# Altium integrated library TI_Logic_Specialty_Logic.IntLib: 2504 symbols (part 29 of 81)
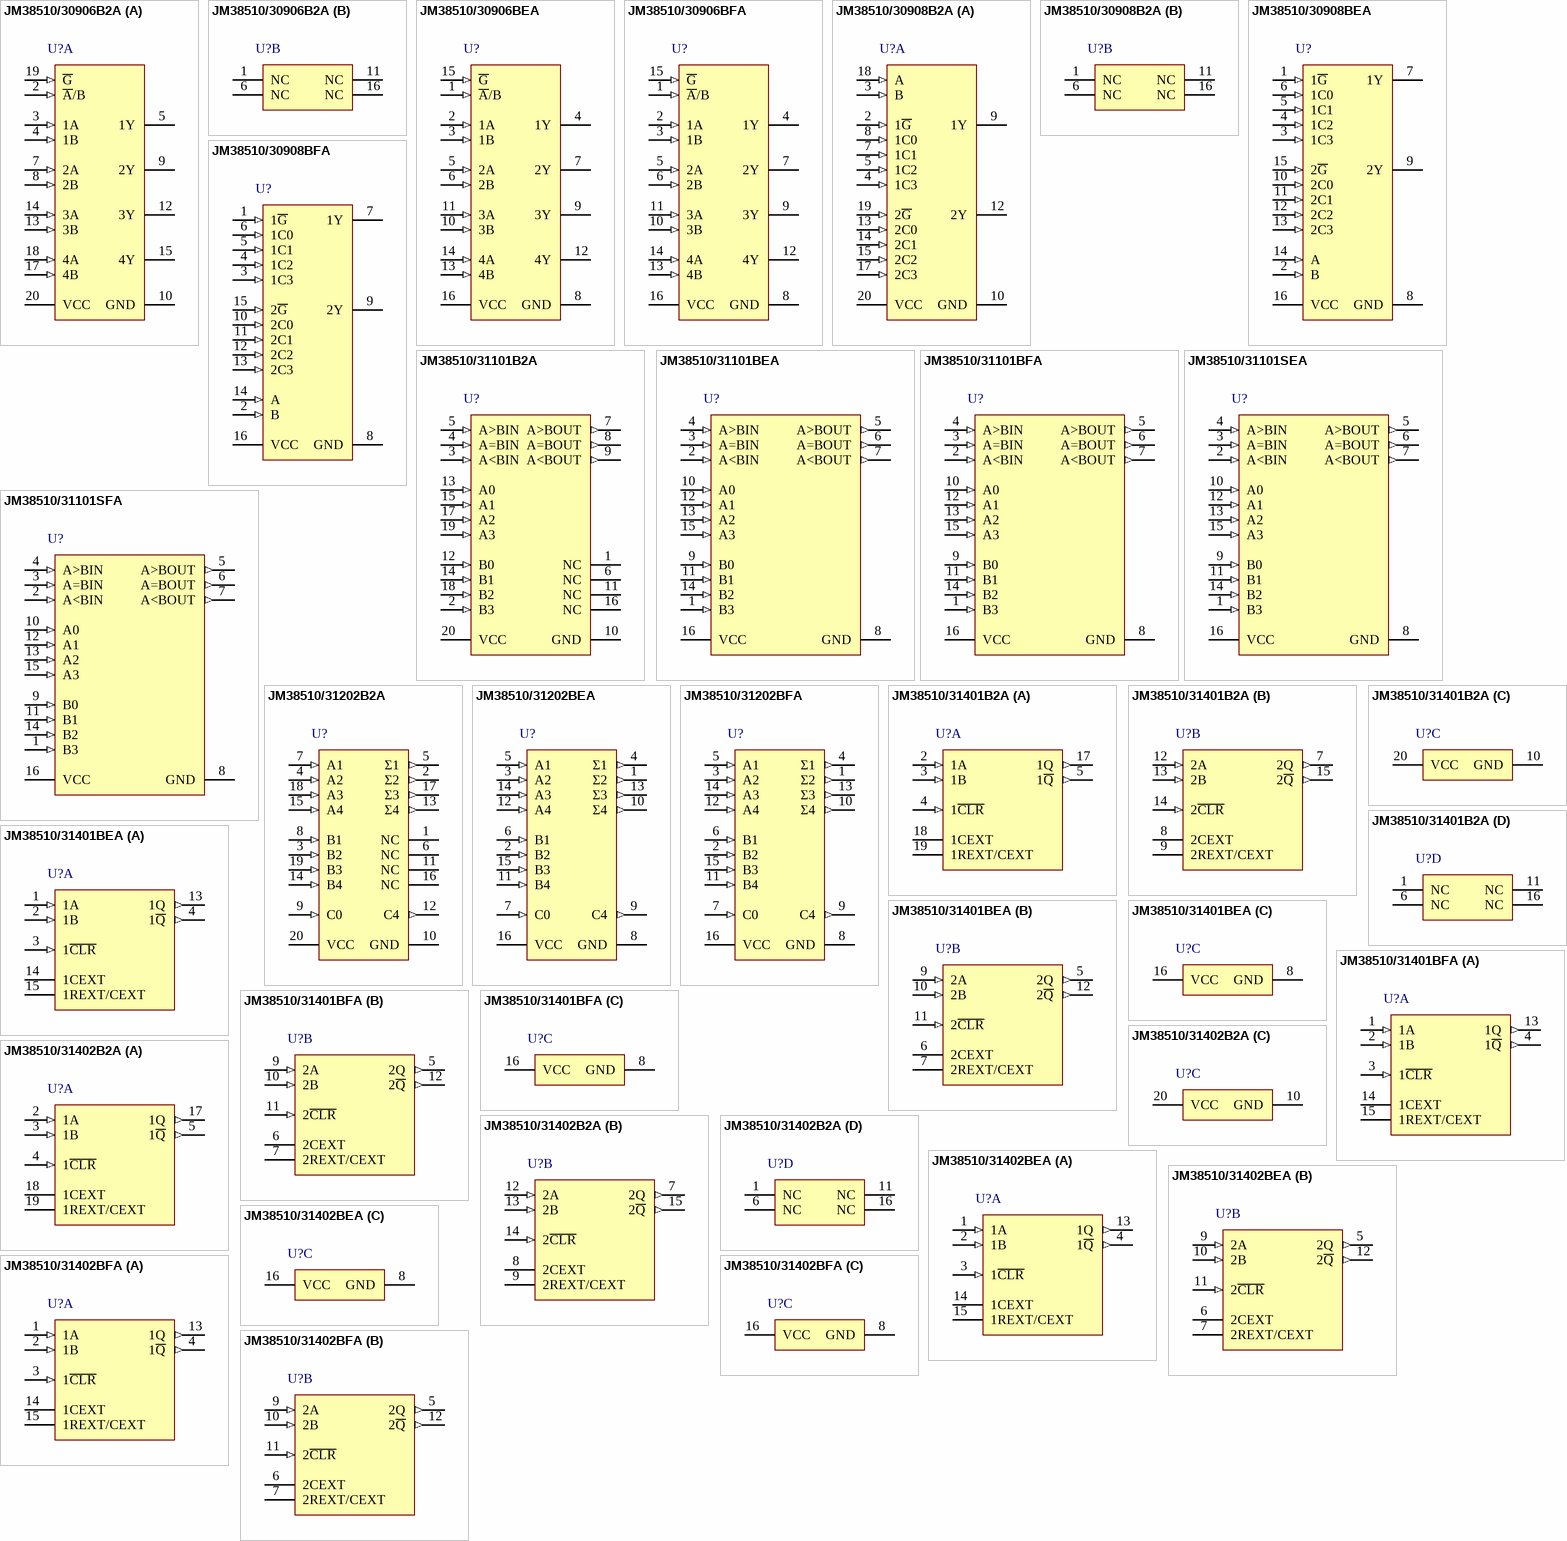
[diagram p132: symbols JM38510/30906B2A to JM38510/31402BFA]

## JM38510/31402BEA
designator U?
Dual Monostable Multivibrators With Schmitt-trigger Inputs, J0016A, TUBE; Generic Part Number: SN54LS221; Manufacturer: Texas Instruments; PartNumber: JM38510/31402BEA; VCC(Min)(V): 4.75; VCC(Max)(V): 5.25; Output Type: TTL; ICC @ Nom Voltage(Max)(mA): 27; Bits(#): 2; Rating: Military; Technology Family: LS; Output Drive (IOL/IOH)(Max)(mA): 8/-0.4; tpd @ Nom Voltage(Max)(ns): 80; DatasheetVersion: SDLS213B; PackageReference: J0016A; Input Type: TTL; Operating Temperature Range(C): -55 to 125; ComponentLink1Description: Manufacturer URL; ComponentLink1URL: http://www.ti.com/; ComponentLink2Description: Datasheet; ComponentLink2URL: http://www.ti.com/lit/ds/symlink/sn54ls221.pdf; ComponentLink3Description: Package Specification; ComponentLink3URL: http://www.ti.com/lit/ml/mcer002d/mcer002d.pdf
footprint J0016A (DIP, 16-Leads, Body 21.35x7.2mm, Pitch 2.54mm)
part A pins: 1 1A (in), 2 1B (in), 3 1~{CLR} (in), 4 1~{Q} (out), 13 1Q (out), 14 1CEXT, 15 1REXT/CEXT
part B pins: 5 2Q (out), 6 2CEXT, 7 2REXT/CEXT, 9 2A (in), 10 2B (in), 11 2~{CLR} (in), 12 2~{Q} (out)
part C pins: 8 GND (power), 16 VCC (power)

## JM38510/31402BFA
designator U?
Dual Monostable Multivibrators With Schmitt-trigger Inputs, W0016A, TUBE; Generic Part Number: SN54LS221; Manufacturer: Texas Instruments; PartNumber: JM38510/31402BFA; VCC(Min)(V): 4.75; VCC(Max)(V): 5.25; Output Type: TTL; ICC @ Nom Voltage(Max)(mA): 27; Bits(#): 2; Rating: Military; Technology Family: LS; Output Drive (IOL/IOH)(Max)(mA): 8/-0.4; tpd @ Nom Voltage(Max)(ns): 80; DatasheetVersion: SDLS213B; PackageReference: W0016A; Input Type: TTL; Operating Temperature Range(C): -55 to 125; ComponentLink1Description: Manufacturer URL; ComponentLink1URL: http://www.ti.com/; ComponentLink2Description: Datasheet; ComponentLink2URL: http://www.ti.com/lit/ds/symlink/sn54ls221.pdf; ComponentLink3Description: Package Specification; ComponentLink3URL: http://www.ti.com/lit/ml/mcfp004c/mcfp004c.pdf
footprint W0016A_N (CFP, 16-Leads, Body 10.92x7.24mm, Pitch 1.27mm, IPC Medium Density)
footprint W0016A_M (CFP, 16-Leads, Body 10.92x7.24mm, Pitch 1.27mm, IPC Low Density)
footprint W0016A_L (CFP, 16-Leads, Body 10.92x7.24mm, Pitch 1.27mm, IPC High Density)
part A pins: 1 1A (in), 2 1B (in), 3 1~{CLR} (in), 4 1~{Q} (out), 13 1Q (out), 14 1CEXT, 15 1REXT/CEXT
part B pins: 5 2Q (out), 6 2CEXT, 7 2REXT/CEXT, 9 2A (in), 10 2B (in), 11 2~{CLR} (in), 12 2~{Q} (out)
part C pins: 8 GND (power), 16 VCC (power)

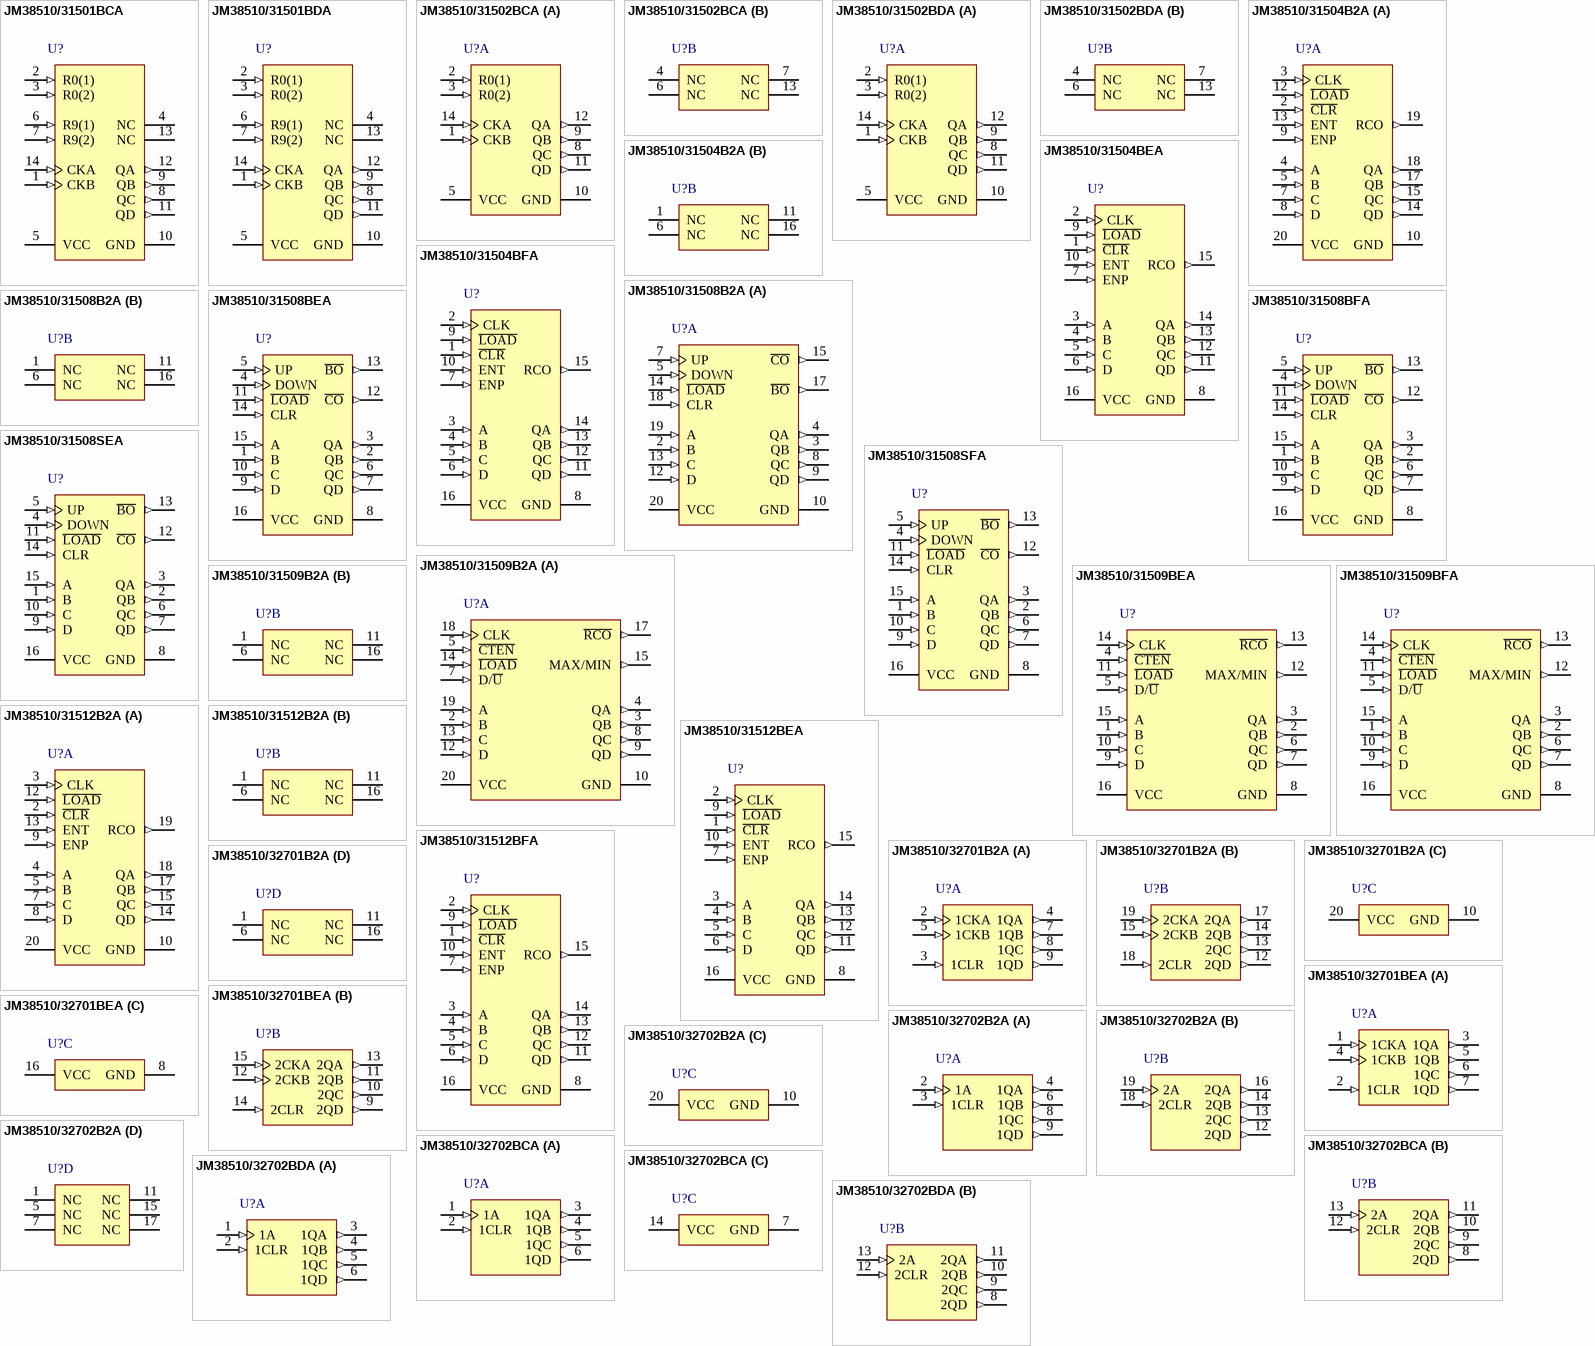
[diagram p39: symbols JM38510/31501BCA to JM38510/32702BDA]

## JM38510/31501BCA
designator U?
Decade Counter, J0014A, TUBE; Generic Part Number: SN54LS90; Manufacturer: Texas Instruments; PartNumber: JM38510/31501BCA; VCC(Min)(V): 4.75; VCC(Max)(V): 5.25; Inputs: 1; ICC @ Nom Voltage(Max)(mA): 15; Bits(#): 4; F @ Nom Voltage(Max)(Mhz): 35; Rating: Military; Technology Family: LS; Output Drive (IOL/IOH)(Max)(mA): 8/-0.4; tpd @ Nom Voltage(Max)(ns): 50; DatasheetVersion: SDLS940A; PackageReference: J0014A; Function: Counter; Operating Temperature Range(C): -55 to 125; Type: Decade; ComponentLink1Description: Manufacturer URL; ComponentLink1URL: http://www.ti.com/; ComponentLink2Description: Datasheet; ComponentLink2URL: http://www.ti.com/lit/ds/symlink/sn54ls90.pdf; ComponentLink3Description: Package Specification; ComponentLink3URL: http://www.ti.com/lit/ml/mcer002d/mcer002d.pdf
footprint J0014A (DIP, 14-Leads, Body 19.95x7.2mm, Pitch 2.54mm)
pins: 1 CKB (in), 2 R0(1) (in), 3 R0(2) (in), 4 NC, 5 VCC (power), 6 R9(1) (in), 7 R9(2) (in), 8 QC (out), 9 QB (out), 10 GND (power), 11 QD (out), 12 QA (out), 13 NC, 14 CKA (in)

## JM38510/31501BDA
designator U?
Decade Counter, W0014A, TUBE; Generic Part Number: SN54LS90; Manufacturer: Texas Instruments; PartNumber: JM38510/31501BDA; VCC(Min)(V): 4.75; VCC(Max)(V): 5.25; Inputs: 1; ICC @ Nom Voltage(Max)(mA): 15; Bits(#): 4; F @ Nom Voltage(Max)(Mhz): 35; Rating: Military; Technology Family: LS; Output Drive (IOL/IOH)(Max)(mA): 8/-0.4; tpd @ Nom Voltage(Max)(ns): 50; DatasheetVersion: SDLS940A; PackageReference: W0014A; Function: Counter; Operating Temperature Range(C): -55 to 125; Type: Decade; ComponentLink1Description: Manufacturer URL; ComponentLink1URL: http://www.ti.com/; ComponentLink2Description: Datasheet; ComponentLink2URL: http://www.ti.com/lit/ds/symlink/sn54ls90.pdf; ComponentLink3Description: Package Specification; ComponentLink3URL: http://www.ti.com/lit/ml/mcfp002c/mcfp002c.pdf
footprint W0014A_N (CFP, 14-Leads, Body 9.91x6.6mm, Pitch 1.27mm, IPC Medium Density)
footprint W0014A_M (CFP, 14-Leads, Body 9.91x6.6mm, Pitch 1.27mm, IPC Low Density)
footprint W0014A_L (CFP, 14-Leads, Body 9.91x6.6mm, Pitch 1.27mm, IPC High Density)
pins: 1 CKB (in), 2 R0(1) (in), 3 R0(2) (in), 4 NC, 5 VCC (power), 6 R9(1) (in), 7 R9(2) (in), 8 QC (out), 9 QB (out), 10 GND (power), 11 QD (out), 12 QA (out), 13 NC, 14 CKA (in)

## JM38510/31502BCA
designator U?
4-Bit Binary Counter, J0014A, TUBE; Generic Part Number: SN54LS93; Manufacturer: Texas Instruments; PartNumber: JM38510/31502BCA; VCC(Min)(V): 4.75; VCC(Max)(V): 5.25; Inputs: 1; ICC @ Nom Voltage(Max)(mA): 15; Bits(#): 4; F @ Nom Voltage(Max)(Mhz): 35; Rating: Military; Technology Family: LS; Output Drive (IOL/IOH)(Max)(mA): 8/-0.4; tpd @ Nom Voltage(Max)(ns): 70; DatasheetVersion: SDLS940A; PackageReference: J0014A; Function: Counter; Operating Temperature Range(C): -55 to 125; Type: Binary; ComponentLink1Description: Manufacturer URL; ComponentLink1URL: http://www.ti.com/; ComponentLink2Description: Datasheet; ComponentLink2URL: http://www.ti.com/lit/ds/symlink/sn54ls93.pdf; ComponentLink3Description: Package Specification; ComponentLink3URL: http://www.ti.com/lit/ml/mcer002d/mcer002d.pdf
footprint J0014A (DIP, 14-Leads, Body 19.95x7.2mm, Pitch 2.54mm)
part A pins: 1 CKB (in), 2 R0(1) (in), 3 R0(2) (in), 5 VCC (power), 8 QC (out), 9 QB (out), 10 GND (power), 11 QD (out), 12 QA (out), 14 CKA (in)
part B pins: 4 NC, 6 NC, 7 NC, 13 NC

## JM38510/31502BDA
designator U?
4-Bit Binary Counter, W0014A, TUBE; Generic Part Number: SN54LS93; Manufacturer: Texas Instruments; PartNumber: JM38510/31502BDA; VCC(Min)(V): 4.75; VCC(Max)(V): 5.25; Inputs: 1; ICC @ Nom Voltage(Max)(mA): 15; Bits(#): 4; F @ Nom Voltage(Max)(Mhz): 35; Rating: Military; Technology Family: LS; Output Drive (IOL/IOH)(Max)(mA): 8/-0.4; tpd @ Nom Voltage(Max)(ns): 70; DatasheetVersion: SDLS940A; PackageReference: W0014A; Function: Counter; Operating Temperature Range(C): -55 to 125; Type: Binary; ComponentLink1Description: Manufacturer URL; ComponentLink1URL: http://www.ti.com/; ComponentLink2Description: Datasheet; ComponentLink2URL: http://www.ti.com/lit/ds/symlink/sn54ls93.pdf; ComponentLink3Description: Package Specification; ComponentLink3URL: http://www.ti.com/lit/ml/mcfp002c/mcfp002c.pdf
footprint W0014A_N (CFP, 14-Leads, Body 9.91x6.6mm, Pitch 1.27mm, IPC Medium Density)
footprint W0014A_M (CFP, 14-Leads, Body 9.91x6.6mm, Pitch 1.27mm, IPC Low Density)
footprint W0014A_L (CFP, 14-Leads, Body 9.91x6.6mm, Pitch 1.27mm, IPC High Density)
part A pins: 1 CKB (in), 2 R0(1) (in), 3 R0(2) (in), 5 VCC (power), 8 QC (out), 9 QB (out), 10 GND (power), 11 QD (out), 12 QA (out), 14 CKA (in)
part B pins: 4 NC, 6 NC, 7 NC, 13 NC

## JM38510/31504B2A
designator U?
Synchronous 4-Bit Counters, FK0020A, TUBE; Generic Part Number: SN54LS161A; Manufacturer: Texas Instruments; PartNumber: JM38510/31504B2A; VCC(Min)(V): 4.75; VCC(Max)(V): 5.25; Inputs: 1; ICC @ Nom Voltage(Max)(mA): 32; Bits(#): 4; F @ Nom Voltage(Max)(Mhz): 35; Rating: Military; Technology Family: LS; Output Drive (IOL/IOH)(Max)(mA): 8/-0.4; DatasheetVersion: SDLS060; PackageReference: FK0020A; Function: Counter; Operating Temperature Range(C): -55 to 125; Type: Binary; tpd @ Nom Voltage(Max)(ns): 35; Code_JEDEC: MS-004; ComponentLink1Description: Manufacturer URL; ComponentLink1URL: http://www.ti.com/; ComponentLink2Description: Datasheet; ComponentLink2URL: http://www.ti.com/lit/ds/symlink/sn54ls161a.pdf; ComponentLink3Description: Package Specification; ComponentLink3URL: http://www.ti.com/lit/ml/mlcc006d/mlcc006d.pdf
footprint FK0020A_N (LCC, 20-Leads, Body 8.9x8.9mm, Pitch 1.27mm, IPC Medium Density)
footprint FK0020A_M (LCC, 20-Leads, Body 8.9x8.9mm, Pitch 1.27mm, IPC Low Density)
footprint FK0020A_L (LCC, 20-Leads, Body 8.9x8.9mm, Pitch 1.27mm, IPC High Density)
part A pins: 2 ~{CLR} (in), 3 CLK (in), 4 A (in), 5 B (in), 7 C (in), 8 D (in), 9 ENP (in), 10 GND (power), 12 ~{LOAD} (in), 13 ENT (in), 14 QD (out), 15 QC (out), 17 QB (out), 18 QA (out), 19 RCO (out), 20 VCC (power)
part B pins: 1 NC, 6 NC, 11 NC, 16 NC

## JM38510/31504BEA
designator U?
Synchronous 4-Bit Counters, J0016A, TUBE; Generic Part Number: SN54LS161A; Manufacturer: Texas Instruments; PartNumber: JM38510/31504BEA; VCC(Min)(V): 4.75; VCC(Max)(V): 5.25; Inputs: 1; ICC @ Nom Voltage(Max)(mA): 32; Bits(#): 4; F @ Nom Voltage(Max)(Mhz): 35; Rating: Military; Technology Family: LS; Output Drive (IOL/IOH)(Max)(mA): 8/-0.4; DatasheetVersion: SDLS060; PackageReference: J0016A; Function: Counter; Operating Temperature Range(C): -55 to 125; Type: Binary; tpd @ Nom Voltage(Max)(ns): 35; ComponentLink1Description: Manufacturer URL; ComponentLink1URL: http://www.ti.com/; ComponentLink2Description: Datasheet; ComponentLink2URL: http://www.ti.com/lit/ds/symlink/sn54ls161a.pdf; ComponentLink3Description: Package Specification; ComponentLink3URL: http://www.ti.com/lit/ml/mcer002d/mcer002d.pdf
footprint J0016A (DIP, 16-Leads, Body 21.35x7.2mm, Pitch 2.54mm)
pins: 1 ~{CLR} (in), 2 CLK (in), 3 A (in), 4 B (in), 5 C (in), 6 D (in), 7 ENP (in), 8 GND (power), 9 ~{LOAD} (in), 10 ENT (in), 11 QD (out), 12 QC (out), 13 QB (out), 14 QA (out), 15 RCO (out), 16 VCC (power)

## JM38510/31504BFA
designator U?
Synchronous 4-Bit Counters, W0016A, TUBE; Generic Part Number: SN54LS161A; Manufacturer: Texas Instruments; PartNumber: JM38510/31504BFA; VCC(Min)(V): 4.75; VCC(Max)(V): 5.25; Inputs: 1; ICC @ Nom Voltage(Max)(mA): 32; Bits(#): 4; F @ Nom Voltage(Max)(Mhz): 35; Rating: Military; Technology Family: LS; Output Drive (IOL/IOH)(Max)(mA): 8/-0.4; DatasheetVersion: SDLS060; PackageReference: W0016A; Function: Counter; Operating Temperature Range(C): -55 to 125; Type: Binary; tpd @ Nom Voltage(Max)(ns): 35; ComponentLink1Description: Manufacturer URL; ComponentLink1URL: http://www.ti.com/; ComponentLink2Description: Datasheet; ComponentLink2URL: http://www.ti.com/lit/ds/symlink/sn54ls161a.pdf; ComponentLink3Description: Package Specification; ComponentLink3URL: http://www.ti.com/lit/ml/mcfp004c/mcfp004c.pdf
footprint W0016A_N (CFP, 16-Leads, Body 10.92x7.24mm, Pitch 1.27mm, IPC Medium Density)
footprint W0016A_M (CFP, 16-Leads, Body 10.92x7.24mm, Pitch 1.27mm, IPC Low Density)
footprint W0016A_L (CFP, 16-Leads, Body 10.92x7.24mm, Pitch 1.27mm, IPC High Density)
pins: 1 ~{CLR} (in), 2 CLK (in), 3 A (in), 4 B (in), 5 C (in), 6 D (in), 7 ENP (in), 8 GND (power), 9 ~{LOAD} (in), 10 ENT (in), 11 QD (out), 12 QC (out), 13 QB (out), 14 QA (out), 15 RCO (out), 16 VCC (power)

## JM38510/31508B2A
designator U?
Synchronous 4-Bit Up/Down Counters (Dual Clock With Clear), FK0020A, TUBE; Generic Part Number: SN54LS193; Manufacturer: Texas Instruments; PartNumber: JM38510/31508B2A; VCC(Min)(V): 4.75; VCC(Max)(V): 5.25; Inputs: 4; ICC @ Nom Voltage(Max)(mA): 34; F @ Nom Voltage(Max)(Mhz): 35; Rating: Military; Technology Family: LS; Output Drive (IOL/IOH)(Max)(mA): 8/-0.4; tpd @ Nom Voltage(Max)(ns): 47; DatasheetVersion: SDLS074; PackageReference: FK0020A; Function: Counter; Bits(#): 4; Operating Temperature Range(C): -55 to 125; Type: Binary; Code_JEDEC: MS-004; ComponentLink1Description: Manufacturer URL; ComponentLink1URL: http://www.ti.com/; ComponentLink2Description: Datasheet; ComponentLink2URL: http://www.ti.com/lit/ds/symlink/sn54ls193.pdf; ComponentLink3Description: Package Specification; ComponentLink3URL: http://www.ti.com/lit/ml/mlcc006d/mlcc006d.pdf
footprint FK0020A_N (LCC, 20-Leads, Body 8.9x8.9mm, Pitch 1.27mm, IPC Medium Density)
footprint FK0020A_M (LCC, 20-Leads, Body 8.9x8.9mm, Pitch 1.27mm, IPC Low Density)
footprint FK0020A_L (LCC, 20-Leads, Body 8.9x8.9mm, Pitch 1.27mm, IPC High Density)
part A pins: 2 B (in), 3 QB (out), 4 QA (out), 5 DOWN (in), 7 UP (in), 8 QC (out), 9 QD (out), 10 GND (power), 12 D (in), 13 C (in), 14 ~{LOAD} (in), 15 ~{CO} (out), 17 ~{BO} (out), 18 CLR (in), 19 A (in), 20 VCC (power)
part B pins: 1 NC, 6 NC, 11 NC, 16 NC

## JM38510/31508BEA
designator U?
Synchronous 4-Bit Up/Down Counters (Dual Clock With Clear), J0016A, TUBE; Generic Part Number: SN54LS193; Manufacturer: Texas Instruments; PartNumber: JM38510/31508BEA; VCC(Min)(V): 4.75; VCC(Max)(V): 5.25; Inputs: 4; ICC @ Nom Voltage(Max)(mA): 34; F @ Nom Voltage(Max)(Mhz): 35; Rating: Military; Technology Family: LS; Output Drive (IOL/IOH)(Max)(mA): 8/-0.4; tpd @ Nom Voltage(Max)(ns): 47; DatasheetVersion: SDLS074; PackageReference: J0016A; Function: Counter; Bits(#): 4; Operating Temperature Range(C): -55 to 125; Type: Binary; ComponentLink1Description: Manufacturer URL; ComponentLink1URL: http://www.ti.com/; ComponentLink2Description: Datasheet; ComponentLink2URL: http://www.ti.com/lit/ds/symlink/sn54ls193.pdf; ComponentLink3Description: Package Specification; ComponentLink3URL: http://www.ti.com/lit/ml/mcer002d/mcer002d.pdf
footprint J0016A (DIP, 16-Leads, Body 21.35x7.2mm, Pitch 2.54mm)
pins: 1 B (in), 2 QB (out), 3 QA (out), 4 DOWN (in), 5 UP (in), 6 QC (out), 7 QD (out), 8 GND (power), 9 D (in), 10 C (in), 11 ~{LOAD} (in), 12 ~{CO} (out), 13 ~{BO} (out), 14 CLR (in), 15 A (in), 16 VCC (power)

## JM38510/31508BFA
designator U?
Synchronous 4-Bit Up/Down Counters (Dual Clock With Clear), W0016A, TUBE; Generic Part Number: SN54LS193; Manufacturer: Texas Instruments; PartNumber: JM38510/31508BFA; VCC(Min)(V): 4.75; VCC(Max)(V): 5.25; Inputs: 4; ICC @ Nom Voltage(Max)(mA): 34; F @ Nom Voltage(Max)(Mhz): 35; Rating: Military; Technology Family: LS; Output Drive (IOL/IOH)(Max)(mA): 8/-0.4; tpd @ Nom Voltage(Max)(ns): 47; DatasheetVersion: SDLS074; PackageReference: W0016A; Function: Counter; Bits(#): 4; Operating Temperature Range(C): -55 to 125; Type: Binary; ComponentLink1Description: Manufacturer URL; ComponentLink1URL: http://www.ti.com/; ComponentLink2Description: Datasheet; ComponentLink2URL: http://www.ti.com/lit/ds/symlink/sn54ls193.pdf; ComponentLink3Description: Package Specification; ComponentLink3URL: http://www.ti.com/lit/ml/mcfp004c/mcfp004c.pdf
footprint W0016A_N (CFP, 16-Leads, Body 10.92x7.24mm, Pitch 1.27mm, IPC Medium Density)
footprint W0016A_M (CFP, 16-Leads, Body 10.92x7.24mm, Pitch 1.27mm, IPC Low Density)
footprint W0016A_L (CFP, 16-Leads, Body 10.92x7.24mm, Pitch 1.27mm, IPC High Density)
pins: 1 B (in), 2 QB (out), 3 QA (out), 4 DOWN (in), 5 UP (in), 6 QC (out), 7 QD (out), 8 GND (power), 9 D (in), 10 C (in), 11 ~{LOAD} (in), 12 ~{CO} (out), 13 ~{BO} (out), 14 CLR (in), 15 A (in), 16 VCC (power)

## JM38510/31508SEA
designator U?
Synchronous 4-Bit Up/Down Counters (Dual Clock With Clear), J0016A, TUBE; Generic Part Number: SN54LS193-SP; Manufacturer: Texas Instruments; PartNumber: JM38510/31508SEA; VCC(Min)(V): 4.75; VCC(Max)(V): 5.25; Inputs: 4; ICC @ Nom Voltage(Max)(mA): 34; F @ Nom Voltage(Max)(Mhz): 35; Rating: Space; Technology Family: LS; Output Drive (IOL/IOH)(Max)(mA): 8/-0.4; tpd @ Nom Voltage(Max)(ns): 47; DatasheetVersion: SDLS074; PackageReference: J0016A; Function: Counter; Bits(#): 4; Operating Temperature Range(C): -55 to 125; Type: Binary; ComponentLink1Description: Manufacturer URL; ComponentLink1URL: http://www.ti.com/; ComponentLink2Description: Datasheet; ComponentLink2URL: http://www.ti.com/lit/ds/symlink/sn54ls193-sp.pdf; ComponentLink3Description: Package Specification; ComponentLink3URL: http://www.ti.com/lit/ml/mcer002d/mcer002d.pdf
footprint J0016A (DIP, 16-Leads, Body 21.35x7.2mm, Pitch 2.54mm)
pins: 1 B (in), 2 QB (out), 3 QA (out), 4 DOWN (in), 5 UP (in), 6 QC (out), 7 QD (out), 8 GND (power), 9 D (in), 10 C (in), 11 ~{LOAD} (in), 12 ~{CO} (out), 13 ~{BO} (out), 14 CLR (in), 15 A (in), 16 VCC (power)

## JM38510/31508SFA
designator U?
Synchronous 4-Bit Up/Down Counters (Dual Clock With Clear), W0016A, TUBE; Generic Part Number: SN54LS193-SP; Manufacturer: Texas Instruments; PartNumber: JM38510/31508SFA; VCC(Min)(V): 4.75; VCC(Max)(V): 5.25; Inputs: 4; ICC @ Nom Voltage(Max)(mA): 34; F @ Nom Voltage(Max)(Mhz): 35; Rating: Space; Technology Family: LS; Output Drive (IOL/IOH)(Max)(mA): 8/-0.4; tpd @ Nom Voltage(Max)(ns): 47; DatasheetVersion: SDLS074; PackageReference: W0016A; Function: Counter; Bits(#): 4; Operating Temperature Range(C): -55 to 125; Type: Binary; ComponentLink1Description: Manufacturer URL; ComponentLink1URL: http://www.ti.com/; ComponentLink2Description: Datasheet; ComponentLink2URL: http://www.ti.com/lit/ds/symlink/sn54ls193-sp.pdf; ComponentLink3Description: Package Specification; ComponentLink3URL: http://www.ti.com/lit/ml/mcfp004c/mcfp004c.pdf
footprint W0016A_N (CFP, 16-Leads, Body 10.92x7.24mm, Pitch 1.27mm, IPC Medium Density)
footprint W0016A_M (CFP, 16-Leads, Body 10.92x7.24mm, Pitch 1.27mm, IPC Low Density)
footprint W0016A_L (CFP, 16-Leads, Body 10.92x7.24mm, Pitch 1.27mm, IPC High Density)
pins: 1 B (in), 2 QB (out), 3 QA (out), 4 DOWN (in), 5 UP (in), 6 QC (out), 7 QD (out), 8 GND (power), 9 D (in), 10 C (in), 11 ~{LOAD} (in), 12 ~{CO} (out), 13 ~{BO} (out), 14 CLR (in), 15 A (in), 16 VCC (power)

## JM38510/31509B2A
designator U?
Synchronous Up/Down Counters With Down/Up Mode Control, FK0020A, TUBE; Generic Part Number: SN54LS191; Manufacturer: Texas Instruments; PartNumber: JM38510/31509B2A; VCC(Min)(V): 4.75; VCC(Max)(V): 5.25; Inputs: 1; ICC @ Nom Voltage(Max)(mA): 105; Bits(#): 4; F @ Nom Voltage(Max)(Mhz): 35; Rating: Military; Technology Family: LS; Output Drive (IOL/IOH)(Max)(mA): 16/-0.8; tpd @ Nom Voltage(Max)(ns): 52; DatasheetVersion: SDLS072; PackageReference: FK0020A; Function: Counter; Operating Temperature Range(C): -55 to 125; Type: Binary; Code_JEDEC: MS-004; ComponentLink1Description: Manufacturer URL; ComponentLink1URL: http://www.ti.com/; ComponentLink2Description: Datasheet; ComponentLink2URL: http://www.ti.com/lit/ds/symlink/sn54ls191.pdf; ComponentLink3Description: Package Specification; ComponentLink3URL: http://www.ti.com/lit/ml/mlcc006d/mlcc006d.pdf
footprint FK0020A_N (LCC, 20-Leads, Body 8.9x8.9mm, Pitch 1.27mm, IPC Medium Density)
footprint FK0020A_M (LCC, 20-Leads, Body 8.9x8.9mm, Pitch 1.27mm, IPC Low Density)
footprint FK0020A_L (LCC, 20-Leads, Body 8.9x8.9mm, Pitch 1.27mm, IPC High Density)
part A pins: 2 B (in), 3 QB (out), 4 QA (out), 5 ~{CTEN} (in), 7 D/~{U} (in), 8 QC (out), 9 QD (out), 10 GND (power), 12 D (in), 13 C (in), 14 ~{LOAD} (in), 15 MAX/MIN (out), 17 ~{RCO} (out), 18 CLK (in), 19 A (in), 20 VCC (power)
part B pins: 1 NC, 6 NC, 11 NC, 16 NC

## JM38510/31509BEA
designator U?
Synchronous Up/Down Counters With Down/Up Mode Control, J0016A, TUBE; Generic Part Number: SN54LS191; Manufacturer: Texas Instruments; PartNumber: JM38510/31509BEA; VCC(Min)(V): 4.75; VCC(Max)(V): 5.25; Inputs: 1; ICC @ Nom Voltage(Max)(mA): 105; Bits(#): 4; F @ Nom Voltage(Max)(Mhz): 35; Rating: Military; Technology Family: LS; Output Drive (IOL/IOH)(Max)(mA): 16/-0.8; tpd @ Nom Voltage(Max)(ns): 52; DatasheetVersion: SDLS072; PackageReference: J0016A; Function: Counter; Operating Temperature Range(C): -55 to 125; Type: Binary; ComponentLink1Description: Manufacturer URL; ComponentLink1URL: http://www.ti.com/; ComponentLink2Description: Datasheet; ComponentLink2URL: http://www.ti.com/lit/ds/symlink/sn54ls191.pdf; ComponentLink3Description: Package Specification; ComponentLink3URL: http://www.ti.com/lit/ml/mcer002d/mcer002d.pdf
footprint J0016A (DIP, 16-Leads, Body 21.35x7.2mm, Pitch 2.54mm)
pins: 1 B (in), 2 QB (out), 3 QA (out), 4 ~{CTEN} (in), 5 D/~{U} (in), 6 QC (out), 7 QD (out), 8 GND (power), 9 D (in), 10 C (in), 11 ~{LOAD} (in), 12 MAX/MIN (out), 13 ~{RCO} (out), 14 CLK (in), 15 A (in), 16 VCC (power)

## JM38510/31509BFA
designator U?
Synchronous Up/Down Counters With Down/Up Mode Control, W0016A, TUBE; Generic Part Number: SN54LS191; Manufacturer: Texas Instruments; PartNumber: JM38510/31509BFA; VCC(Min)(V): 4.75; VCC(Max)(V): 5.25; Inputs: 1; ICC @ Nom Voltage(Max)(mA): 105; Bits(#): 4; F @ Nom Voltage(Max)(Mhz): 35; Rating: Military; Technology Family: LS; Output Drive (IOL/IOH)(Max)(mA): 16/-0.8; tpd @ Nom Voltage(Max)(ns): 52; DatasheetVersion: SDLS072; PackageReference: W0016A; Function: Counter; Operating Temperature Range(C): -55 to 125; Type: Binary; ComponentLink1Description: Manufacturer URL; ComponentLink1URL: http://www.ti.com/; ComponentLink2Description: Datasheet; ComponentLink2URL: http://www.ti.com/lit/ds/symlink/sn54ls191.pdf; ComponentLink3Description: Package Specification; ComponentLink3URL: http://www.ti.com/lit/ml/mcfp004c/mcfp004c.pdf
footprint W0016A_N (CFP, 16-Leads, Body 10.92x7.24mm, Pitch 1.27mm, IPC Medium Density)
footprint W0016A_M (CFP, 16-Leads, Body 10.92x7.24mm, Pitch 1.27mm, IPC Low Density)
footprint W0016A_L (CFP, 16-Leads, Body 10.92x7.24mm, Pitch 1.27mm, IPC High Density)
pins: 1 B (in), 2 QB (out), 3 QA (out), 4 ~{CTEN} (in), 5 D/~{U} (in), 6 QC (out), 7 QD (out), 8 GND (power), 9 D (in), 10 C (in), 11 ~{LOAD} (in), 12 MAX/MIN (out), 13 ~{RCO} (out), 14 CLK (in), 15 A (in), 16 VCC (power)

## JM38510/31512B2A
designator U?
Synchronous 4-Bit Counters, FK0020A, TUBE; Generic Part Number: SN54LS163A; Manufacturer: Texas Instruments; PartNumber: JM38510/31512B2A; VCC(Min)(V): 4.75; VCC(Max)(V): 5.25; Inputs: 1; ICC @ Nom Voltage(Max)(mA): 32; Bits(#): 4; F @ Nom Voltage(Max)(Mhz): 35; Rating: Military; Technology Family: LS; Output Drive (IOL/IOH)(Max)(mA): 8/-0.4; DatasheetVersion: SDLS060; PackageReference: FK0020A; Function: Counter; Operating Temperature Range(C): -55 to 125; Type: Binary; tpd @ Nom Voltage(Max)(ns): 35; Code_JEDEC: MS-004; ComponentLink1Description: Manufacturer URL; ComponentLink1URL: http://www.ti.com/; ComponentLink2Description: Datasheet; ComponentLink2URL: http://www.ti.com/lit/ds/symlink/sn54ls163a.pdf; ComponentLink3Description: Package Specification; ComponentLink3URL: http://www.ti.com/lit/ml/mlcc006d/mlcc006d.pdf
footprint FK0020A_N (LCC, 20-Leads, Body 8.9x8.9mm, Pitch 1.27mm, IPC Medium Density)
footprint FK0020A_M (LCC, 20-Leads, Body 8.9x8.9mm, Pitch 1.27mm, IPC Low Density)
footprint FK0020A_L (LCC, 20-Leads, Body 8.9x8.9mm, Pitch 1.27mm, IPC High Density)
part A pins: 2 ~{CLR} (in), 3 CLK (in), 4 A (in), 5 B (in), 7 C (in), 8 D (in), 9 ENP (in), 10 GND (power), 12 ~{LOAD} (in), 13 ENT (in), 14 QD (out), 15 QC (out), 17 QB (out), 18 QA (out), 19 RCO (out), 20 VCC (power)
part B pins: 1 NC, 6 NC, 11 NC, 16 NC

## JM38510/31512BEA
designator U?
Synchronous 4-Bit Counters, J0016A, TUBE; Generic Part Number: SN54LS163A; Manufacturer: Texas Instruments; PartNumber: JM38510/31512BEA; VCC(Min)(V): 4.75; VCC(Max)(V): 5.25; Inputs: 1; ICC @ Nom Voltage(Max)(mA): 32; Bits(#): 4; F @ Nom Voltage(Max)(Mhz): 35; Rating: Military; Technology Family: LS; Output Drive (IOL/IOH)(Max)(mA): 8/-0.4; DatasheetVersion: SDLS060; PackageReference: J0016A; Function: Counter; Operating Temperature Range(C): -55 to 125; Type: Binary; tpd @ Nom Voltage(Max)(ns): 35; ComponentLink1Description: Manufacturer URL; ComponentLink1URL: http://www.ti.com/; ComponentLink2Description: Datasheet; ComponentLink2URL: http://www.ti.com/lit/ds/symlink/sn54ls163a.pdf; ComponentLink3Description: Package Specification; ComponentLink3URL: http://www.ti.com/lit/ml/mcer002d/mcer002d.pdf
footprint J0016A (DIP, 16-Leads, Body 21.35x7.2mm, Pitch 2.54mm)
pins: 1 ~{CLR} (in), 2 CLK (in), 3 A (in), 4 B (in), 5 C (in), 6 D (in), 7 ENP (in), 8 GND (power), 9 ~{LOAD} (in), 10 ENT (in), 11 QD (out), 12 QC (out), 13 QB (out), 14 QA (out), 15 RCO (out), 16 VCC (power)

## JM38510/31512BFA
designator U?
Synchronous 4-Bit Counters, W0016A, TUBE; Generic Part Number: SN54LS163A; Manufacturer: Texas Instruments; PartNumber: JM38510/31512BFA; VCC(Min)(V): 4.75; VCC(Max)(V): 5.25; Inputs: 1; ICC @ Nom Voltage(Max)(mA): 32; Bits(#): 4; F @ Nom Voltage(Max)(Mhz): 35; Rating: Military; Technology Family: LS; Output Drive (IOL/IOH)(Max)(mA): 8/-0.4; DatasheetVersion: SDLS060; PackageReference: W0016A; Function: Counter; Operating Temperature Range(C): -55 to 125; Type: Binary; tpd @ Nom Voltage(Max)(ns): 35; ComponentLink1Description: Manufacturer URL; ComponentLink1URL: http://www.ti.com/; ComponentLink2Description: Datasheet; ComponentLink2URL: http://www.ti.com/lit/ds/symlink/sn54ls163a.pdf; ComponentLink3Description: Package Specification; ComponentLink3URL: http://www.ti.com/lit/ml/mcfp004c/mcfp004c.pdf
footprint W0016A_N (CFP, 16-Leads, Body 10.92x7.24mm, Pitch 1.27mm, IPC Medium Density)
footprint W0016A_M (CFP, 16-Leads, Body 10.92x7.24mm, Pitch 1.27mm, IPC Low Density)
footprint W0016A_L (CFP, 16-Leads, Body 10.92x7.24mm, Pitch 1.27mm, IPC High Density)
pins: 1 ~{CLR} (in), 2 CLK (in), 3 A (in), 4 B (in), 5 C (in), 6 D (in), 7 ENP (in), 8 GND (power), 9 ~{LOAD} (in), 10 ENT (in), 11 QD (out), 12 QC (out), 13 QB (out), 14 QA (out), 15 RCO (out), 16 VCC (power)

## JM38510/32701B2A
designator U?
Dual 4-Bit Decade And Binary Counters, FK0020A, TUBE; Generic Part Number: SN54LS390; Manufacturer: Texas Instruments; PartNumber: JM38510/32701B2A; VCC(Min)(V): 4.75; VCC(Max)(V): 5.25; Inputs: 1; ICC @ Nom Voltage(Max)(mA): 26; Bits(#): 4; F @ Nom Voltage(Max)(Mhz): 35; Rating: Military; Technology Family: LS; Output Drive (IOL/IOH)(Max)(mA): 8/-0.4; tpd @ Nom Voltage(Max)(ns): 60; DatasheetVersion: SDLS107; PackageReference: FK0020A; Function: Counter; Operating Temperature Range(C): -55 to 125; Type: Decade; Code_JEDEC: MS-004; ComponentLink1Description: Manufacturer URL; ComponentLink1URL: http://www.ti.com/; ComponentLink2Description: Datasheet; ComponentLink2URL: http://www.ti.com/lit/ds/symlink/sn54ls390.pdf; ComponentLink3Description: Package Specification; ComponentLink3URL: http://www.ti.com/lit/ml/mlcc006d/mlcc006d.pdf
footprint FK0020A_N (LCC, 20-Leads, Body 8.9x8.9mm, Pitch 1.27mm, IPC Medium Density)
footprint FK0020A_M (LCC, 20-Leads, Body 8.9x8.9mm, Pitch 1.27mm, IPC Low Density)
footprint FK0020A_L (LCC, 20-Leads, Body 8.9x8.9mm, Pitch 1.27mm, IPC High Density)
part A pins: 2 1CKA (in), 3 1CLR (in), 4 1QA (out), 5 1CKB (in), 7 1QB (out), 8 1QC (out), 9 1QD (out)
part B pins: 12 2QD (out), 13 2QC (out), 14 2QB (out), 15 2CKB (in), 17 2QA (out), 18 2CLR (in), 19 2CKA (in)
part C pins: 10 GND (power), 20 VCC (power)
part D pins: 1 NC, 6 NC, 11 NC, 16 NC

## JM38510/32701BEA
designator U?
Dual 4-Bit Decade And Binary Counters, J0016A, TUBE; Generic Part Number: SN54LS390; Manufacturer: Texas Instruments; PartNumber: JM38510/32701BEA; VCC(Min)(V): 4.75; VCC(Max)(V): 5.25; Inputs: 1; ICC @ Nom Voltage(Max)(mA): 26; Bits(#): 4; F @ Nom Voltage(Max)(Mhz): 35; Rating: Military; Technology Family: LS; Output Drive (IOL/IOH)(Max)(mA): 8/-0.4; tpd @ Nom Voltage(Max)(ns): 60; DatasheetVersion: SDLS107; PackageReference: J0016A; Function: Counter; Operating Temperature Range(C): -55 to 125; Type: Decade; ComponentLink1Description: Manufacturer URL; ComponentLink1URL: http://www.ti.com/; ComponentLink2Description: Datasheet; ComponentLink2URL: http://www.ti.com/lit/ds/symlink/sn54ls390.pdf; ComponentLink3Description: Package Specification; ComponentLink3URL: http://www.ti.com/lit/ml/mcer002d/mcer002d.pdf
footprint J0016A (DIP, 16-Leads, Body 21.35x7.2mm, Pitch 2.54mm)
part A pins: 1 1CKA (in), 2 1CLR (in), 3 1QA (out), 4 1CKB (in), 5 1QB (out), 6 1QC (out), 7 1QD (out)
part B pins: 9 2QD (out), 10 2QC (out), 11 2QB (out), 12 2CKB (in), 13 2QA (out), 14 2CLR (in), 15 2CKA (in)
part C pins: 8 GND (power), 16 VCC (power)

## JM38510/32702B2A
designator U?
Dual 4-Bit Binary Counters, FK0020A, TUBE; Generic Part Number: SN54LS393; Manufacturer: Texas Instruments; PartNumber: JM38510/32702B2A; VCC(Min)(V): 4.75; VCC(Max)(V): 5.25; Inputs: 1; ICC @ Nom Voltage(Max)(mA): 26; Bits(#): 4; F @ Nom Voltage(Max)(Mhz): 35; Rating: Military; Technology Family: LS; Output Drive (IOL/IOH)(Max)(mA): 8/-0.4; tpd @ Nom Voltage(Max)(ns): 60; DatasheetVersion: SDLS107; PackageReference: FK0020A; Function: Counter; Operating Temperature Range(C): -55 to 125; Type: Decade; Code_JEDEC: MS-004; ComponentLink1Description: Manufacturer URL; ComponentLink1URL: http://www.ti.com/; ComponentLink2Description: Datasheet; ComponentLink2URL: http://www.ti.com/lit/ds/symlink/sn54ls393.pdf; ComponentLink3Description: Package Specification; ComponentLink3URL: http://www.ti.com/lit/ml/mlcc006d/mlcc006d.pdf
footprint FK0020A_N (LCC, 20-Leads, Body 8.9x8.9mm, Pitch 1.27mm, IPC Medium Density)
footprint FK0020A_M (LCC, 20-Leads, Body 8.9x8.9mm, Pitch 1.27mm, IPC Low Density)
footprint FK0020A_L (LCC, 20-Leads, Body 8.9x8.9mm, Pitch 1.27mm, IPC High Density)
part A pins: 2 1A (in), 3 1CLR (in), 4 1QA (out), 6 1QB (out), 8 1QC (out), 9 1QD (out)
part B pins: 12 2QD (out), 13 2QC (out), 14 2QB (out), 16 2QA (out), 18 2CLR (in), 19 2A (in)
part C pins: 10 GND (power), 20 VCC (power)
part D pins: 1 NC, 5 NC, 7 NC, 11 NC, 15 NC, 17 NC

## JM38510/32702BCA
designator U?
Dual 4-Bit Binary Counters, J0014A, TUBE; Generic Part Number: SN54LS393; Manufacturer: Texas Instruments; PartNumber: JM38510/32702BCA; VCC(Min)(V): 4.75; VCC(Max)(V): 5.25; Inputs: 1; ICC @ Nom Voltage(Max)(mA): 26; Bits(#): 4; F @ Nom Voltage(Max)(Mhz): 35; Rating: Military; Technology Family: LS; Output Drive (IOL/IOH)(Max)(mA): 8/-0.4; tpd @ Nom Voltage(Max)(ns): 60; DatasheetVersion: SDLS107; PackageReference: J0014A; Function: Counter; Operating Temperature Range(C): -55 to 125; Type: Decade; ComponentLink1Description: Manufacturer URL; ComponentLink1URL: http://www.ti.com/; ComponentLink2Description: Datasheet; ComponentLink2URL: http://www.ti.com/lit/ds/symlink/sn54ls393.pdf; ComponentLink3Description: Package Specification; ComponentLink3URL: http://www.ti.com/lit/ml/mcer002d/mcer002d.pdf
footprint J0014A (DIP, 14-Leads, Body 19.95x7.2mm, Pitch 2.54mm)
part A pins: 1 1A (in), 2 1CLR (in), 3 1QA (out), 4 1QB (out), 5 1QC (out), 6 1QD (out)
part B pins: 8 2QD (out), 9 2QC (out), 10 2QB (out), 11 2QA (out), 12 2CLR (in), 13 2A (in)
part C pins: 7 GND (power), 14 VCC (power)

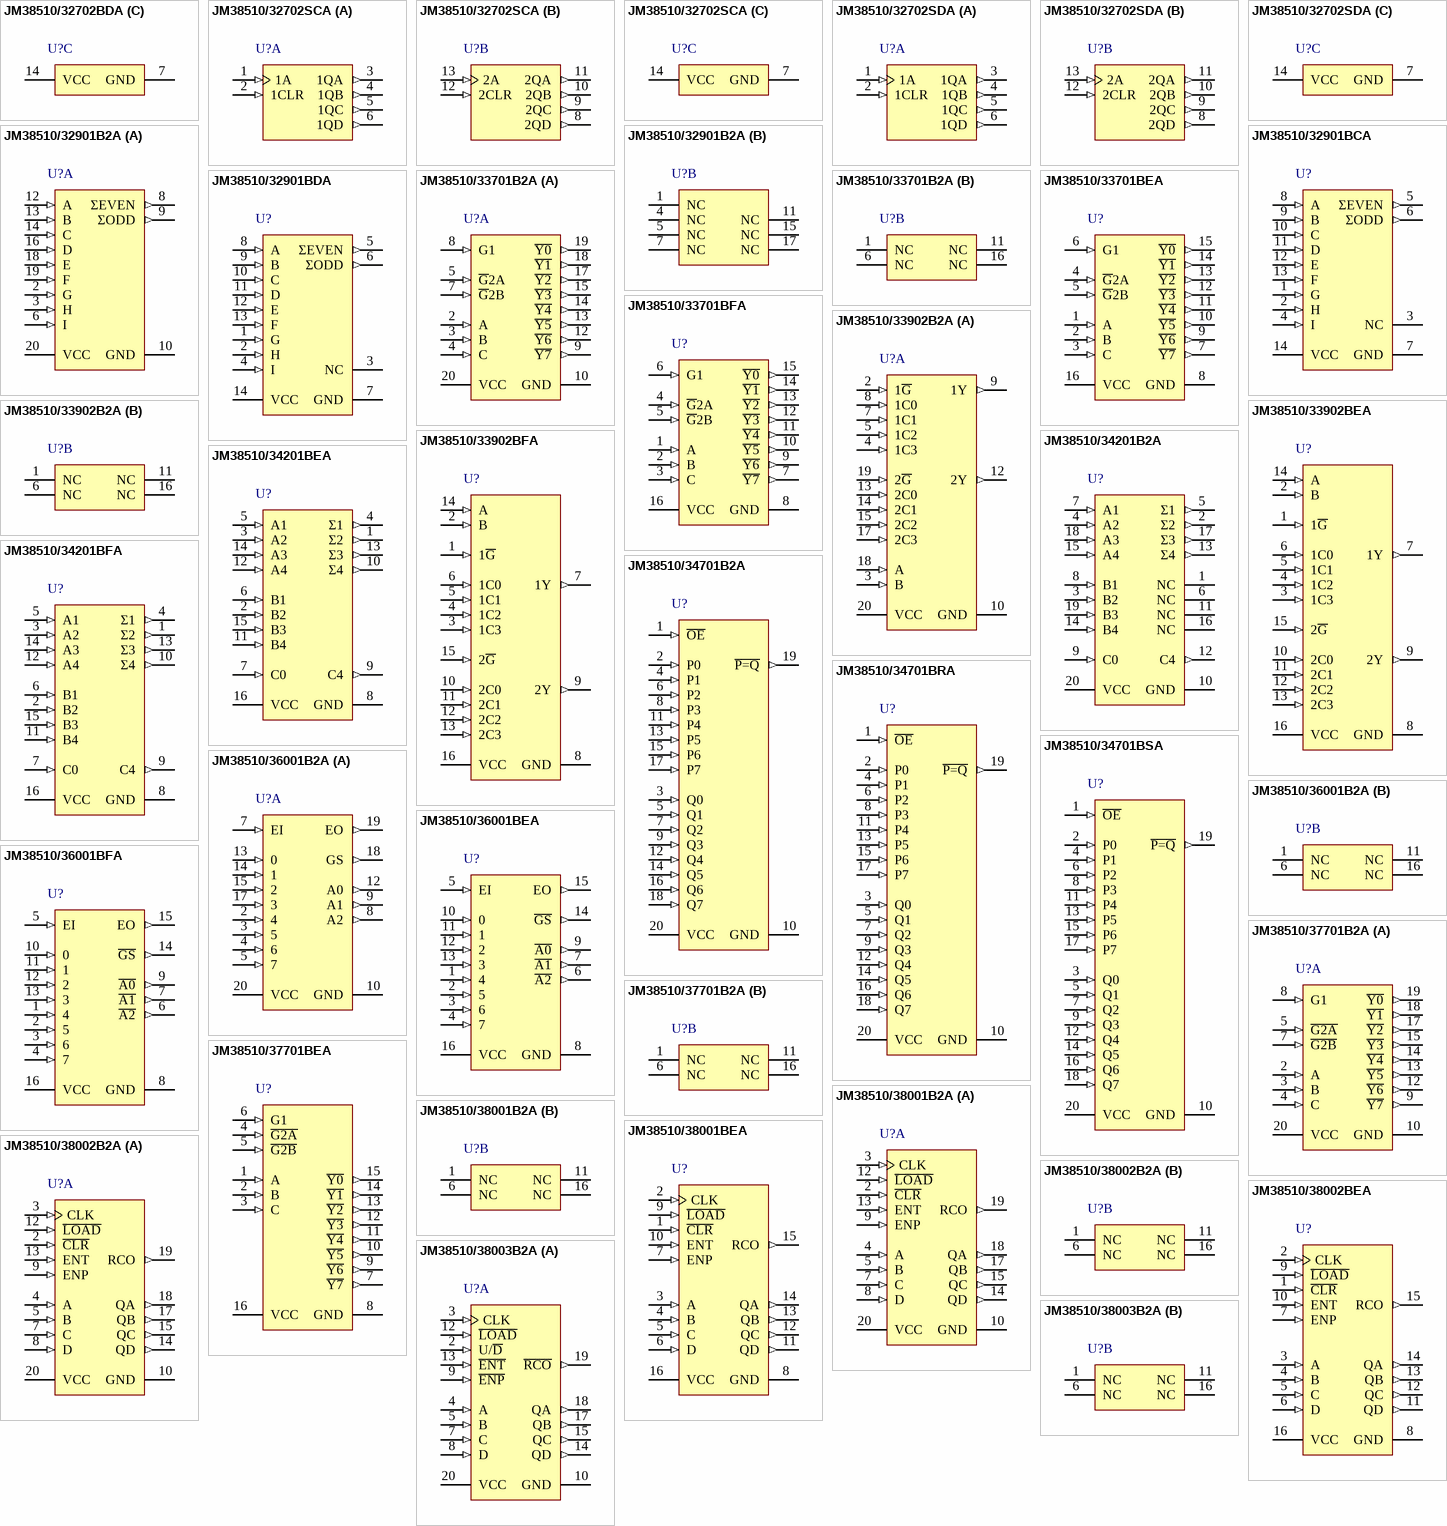
[diagram p40: symbols JM38510/32702BDA to JM38510/38003B2A]

## JM38510/32702BDA
designator U?
Dual 4-Bit Binary Counters, W0014A, TUBE; Generic Part Number: SN54LS393; Manufacturer: Texas Instruments; PartNumber: JM38510/32702BDA; VCC(Min)(V): 4.75; VCC(Max)(V): 5.25; Inputs: 1; ICC @ Nom Voltage(Max)(mA): 26; Bits(#): 4; F @ Nom Voltage(Max)(Mhz): 35; Rating: Military; Technology Family: LS; Output Drive (IOL/IOH)(Max)(mA): 8/-0.4; tpd @ Nom Voltage(Max)(ns): 60; DatasheetVersion: SDLS107; PackageReference: W0014A; Function: Counter; Operating Temperature Range(C): -55 to 125; Type: Decade; ComponentLink1Description: Manufacturer URL; ComponentLink1URL: http://www.ti.com/; ComponentLink2Description: Datasheet; ComponentLink2URL: http://www.ti.com/lit/ds/symlink/sn54ls393.pdf; ComponentLink3Description: Package Specification; ComponentLink3URL: http://www.ti.com/lit/ml/mcfp002c/mcfp002c.pdf
footprint W0014A_N (CFP, 14-Leads, Body 9.91x6.6mm, Pitch 1.27mm, IPC Medium Density)
footprint W0014A_M (CFP, 14-Leads, Body 9.91x6.6mm, Pitch 1.27mm, IPC Low Density)
footprint W0014A_L (CFP, 14-Leads, Body 9.91x6.6mm, Pitch 1.27mm, IPC High Density)
part A pins: 1 1A (in), 2 1CLR (in), 3 1QA (out), 4 1QB (out), 5 1QC (out), 6 1QD (out)
part B pins: 8 2QD (out), 9 2QC (out), 10 2QB (out), 11 2QA (out), 12 2CLR (in), 13 2A (in)
part C pins: 7 GND (power), 14 VCC (power)

## JM38510/32702SCA
designator U?
Dual 4-Bit Binary Counters, J0014A, TUBE; Generic Part Number: SN54LS393-SP; Manufacturer: Texas Instruments; PartNumber: JM38510/32702SCA; VCC(Min)(V): 4.75; VCC(Max)(V): 5.25; Inputs: 1; ICC @ Nom Voltage(Max)(mA): 26; Bits(#): 4; F @ Nom Voltage(Max)(Mhz): 35; Rating: Space; Technology Family: LS; Output Drive (IOL/IOH)(Max)(mA): 8/-0.4; tpd @ Nom Voltage(Max)(ns): 60; DatasheetVersion: SDLS107; PackageReference: J0014A; Function: Counter; Operating Temperature Range(C): -55 to 125; Type: Decade; ComponentLink1Description: Manufacturer URL; ComponentLink1URL: http://www.ti.com/; ComponentLink2Description: Datasheet; ComponentLink2URL: http://www.ti.com/lit/ds/symlink/sn54ls393-sp.pdf; ComponentLink3Description: Package Specification; ComponentLink3URL: http://www.ti.com/lit/ml/mcer002d/mcer002d.pdf
footprint J0014A (DIP, 14-Leads, Body 19.95x7.2mm, Pitch 2.54mm)
part A pins: 1 1A (in), 2 1CLR (in), 3 1QA (out), 4 1QB (out), 5 1QC (out), 6 1QD (out)
part B pins: 8 2QD (out), 9 2QC (out), 10 2QB (out), 11 2QA (out), 12 2CLR (in), 13 2A (in)
part C pins: 7 GND (power), 14 VCC (power)

## JM38510/32702SDA
designator U?
Dual 4-Bit Binary Counters, W0014A, TUBE; Generic Part Number: SN54LS393-SP; Manufacturer: Texas Instruments; PartNumber: JM38510/32702SDA; VCC(Min)(V): 4.75; VCC(Max)(V): 5.25; Inputs: 1; ICC @ Nom Voltage(Max)(mA): 26; Bits(#): 4; F @ Nom Voltage(Max)(Mhz): 35; Rating: Space; Technology Family: LS; Output Drive (IOL/IOH)(Max)(mA): 8/-0.4; tpd @ Nom Voltage(Max)(ns): 60; DatasheetVersion: SDLS107; PackageReference: W0014A; Function: Counter; Operating Temperature Range(C): -55 to 125; Type: Decade; ComponentLink1Description: Manufacturer URL; ComponentLink1URL: http://www.ti.com/; ComponentLink2Description: Datasheet; ComponentLink2URL: http://www.ti.com/lit/ds/symlink/sn54ls393-sp.pdf; ComponentLink3Description: Package Specification; ComponentLink3URL: http://www.ti.com/lit/ml/mcfp002c/mcfp002c.pdf
footprint W0014A_N (CFP, 14-Leads, Body 9.91x6.6mm, Pitch 1.27mm, IPC Medium Density)
footprint W0014A_M (CFP, 14-Leads, Body 9.91x6.6mm, Pitch 1.27mm, IPC Low Density)
footprint W0014A_L (CFP, 14-Leads, Body 9.91x6.6mm, Pitch 1.27mm, IPC High Density)
part A pins: 1 1A (in), 2 1CLR (in), 3 1QA (out), 4 1QB (out), 5 1QC (out), 6 1QD (out)
part B pins: 8 2QD (out), 9 2QC (out), 10 2QB (out), 11 2QA (out), 12 2CLR (in), 13 2A (in)
part C pins: 7 GND (power), 14 VCC (power)

## JM38510/32901B2A
designator U?
9-Bit Odd/Even Parity Generators/Checkers, FK0020A, TUBE; Generic Part Number: SN54LS280; Manufacturer: Texas Instruments; PartNumber: JM38510/32901B2A; VCC(Min)(V): 4.75; VCC(Max)(V): 5.25; Inputs: 9; ICC @ Nom Voltage(Max)(mA): 27; Bits(#): 2; F @ Nom Voltage(Max)(Mhz): 35; Rating: Military; Technology Family: LS; Output Drive (IOL/IOH)(Max)(mA): 8/-0.4; tpd @ Nom Voltage(Max)(ns): 50; DatasheetVersion: SDLS152; PackageReference: FK0020A; Function: Parity; Operating Temperature Range(C): -55 to 125; Type: Other; Code_JEDEC: MS-004; ComponentLink1Description: Manufacturer URL; ComponentLink1URL: http://www.ti.com/; ComponentLink2Description: Datasheet; ComponentLink2URL: http://www.ti.com/lit/ds/symlink/sn54ls280.pdf; ComponentLink3Description: Package Specification; ComponentLink3URL: http://www.ti.com/lit/ml/mlcc006d/mlcc006d.pdf
footprint FK0020A_N (LCC, 20-Leads, Body 8.9x8.9mm, Pitch 1.27mm, IPC Medium Density)
footprint FK0020A_M (LCC, 20-Leads, Body 8.9x8.9mm, Pitch 1.27mm, IPC Low Density)
footprint FK0020A_L (LCC, 20-Leads, Body 8.9x8.9mm, Pitch 1.27mm, IPC High Density)
part A pins: 2 G (in), 3 H (in), 6 I (in), 8 ΣEVEN (out), 9 ΣODD (out), 10 GND (power), 12 A (in), 13 B (in), 14 C (in), 16 D (in), 18 E (in), 19 F (in), 20 VCC (power)
part B pins: 1 NC, 4 NC, 5 NC, 7 NC, 11 NC, 15 NC, 17 NC

## JM38510/32901BCA
designator U?
9-Bit Odd/Even Parity Generators/Checkers, J0014A, TUBE; Generic Part Number: SN54LS280; Manufacturer: Texas Instruments; PartNumber: JM38510/32901BCA; VCC(Min)(V): 4.75; VCC(Max)(V): 5.25; Inputs: 9; ICC @ Nom Voltage(Max)(mA): 27; Bits(#): 2; F @ Nom Voltage(Max)(Mhz): 35; Rating: Military; Technology Family: LS; Output Drive (IOL/IOH)(Max)(mA): 8/-0.4; tpd @ Nom Voltage(Max)(ns): 50; DatasheetVersion: SDLS152; PackageReference: J0014A; Function: Parity; Operating Temperature Range(C): -55 to 125; Type: Other; ComponentLink1Description: Manufacturer URL; ComponentLink1URL: http://www.ti.com/; ComponentLink2Description: Datasheet; ComponentLink2URL: http://www.ti.com/lit/ds/symlink/sn54ls280.pdf; ComponentLink3Description: Package Specification; ComponentLink3URL: http://www.ti.com/lit/ml/mcer002d/mcer002d.pdf
footprint J0014A (DIP, 14-Leads, Body 19.95x7.2mm, Pitch 2.54mm)
pins: 1 G (in), 2 H (in), 3 NC, 4 I (in), 5 ΣEVEN (out), 6 ΣODD (out), 7 GND (power), 8 A (in), 9 B (in), 10 C (in), 11 D (in), 12 E (in), 13 F (in), 14 VCC (power)

## JM38510/32901BDA
designator U?
9-Bit Odd/Even Parity Generators/Checkers, W0014A, TUBE; Generic Part Number: SN54LS280; Manufacturer: Texas Instruments; PartNumber: JM38510/32901BDA; VCC(Min)(V): 4.75; VCC(Max)(V): 5.25; Inputs: 9; ICC @ Nom Voltage(Max)(mA): 27; Bits(#): 2; F @ Nom Voltage(Max)(Mhz): 35; Rating: Military; Technology Family: LS; Output Drive (IOL/IOH)(Max)(mA): 8/-0.4; tpd @ Nom Voltage(Max)(ns): 50; DatasheetVersion: SDLS152; PackageReference: W0014A; Function: Parity; Operating Temperature Range(C): -55 to 125; Type: Other; ComponentLink1Description: Manufacturer URL; ComponentLink1URL: http://www.ti.com/; ComponentLink2Description: Datasheet; ComponentLink2URL: http://www.ti.com/lit/ds/symlink/sn54ls280.pdf; ComponentLink3Description: Package Specification; ComponentLink3URL: http://www.ti.com/lit/ml/mcfp002c/mcfp002c.pdf
footprint W0014A_N (CFP, 14-Leads, Body 9.91x6.6mm, Pitch 1.27mm, IPC Medium Density)
footprint W0014A_M (CFP, 14-Leads, Body 9.91x6.6mm, Pitch 1.27mm, IPC Low Density)
footprint W0014A_L (CFP, 14-Leads, Body 9.91x6.6mm, Pitch 1.27mm, IPC High Density)
pins: 1 G (in), 2 H (in), 3 NC, 4 I (in), 5 ΣEVEN (out), 6 ΣODD (out), 7 GND (power), 8 A (in), 9 B (in), 10 C (in), 11 D (in), 12 E (in), 13 F (in), 14 VCC (power)

## JM38510/33701B2A
designator U?
3-Line To 8-Line Decoders/Demultiplexers, FK0020A, TUBE; Generic Part Number: SN54F138; Manufacturer: Texas Instruments; PartNumber: JM38510/33701B2A; VCC(Min)(V): 4.5; VCC(Max)(V): 5.5; Rating: Military; Technology Family: F; Schmitt Trigger: No; DatasheetVersion: SDFS051B; PackageReference: FK0020A; Operating Temperature Range(C): -55 to 125; Code_JEDEC: MS-004; ComponentLink1Description: Manufacturer URL; ComponentLink1URL: http://www.ti.com/; ComponentLink2Description: Datasheet; ComponentLink2URL: http://www.ti.com/lit/ds/symlink/sn54f138.pdf; ComponentLink3Description: Package Specification; ComponentLink3URL: http://www.ti.com/lit/ml/mlcc006d/mlcc006d.pdf
footprint FK0020A_N (LCC, 20-Leads, Body 8.9x8.9mm, Pitch 1.27mm, IPC Medium Density)
footprint FK0020A_M (LCC, 20-Leads, Body 8.9x8.9mm, Pitch 1.27mm, IPC Low Density)
footprint FK0020A_L (LCC, 20-Leads, Body 8.9x8.9mm, Pitch 1.27mm, IPC High Density)
part A pins: 2 A (in), 3 B (in), 4 C (in), 5 ~{G}2A (in), 7 ~{G}2B (in), 8 G1 (in), 9 ~{Y7} (out), 10 GND (power), 12 ~{Y6} (out), 13 ~{Y5} (out), 14 ~{Y4} (out), 15 ~{Y3} (out), 17 ~{Y2} (out), 18 ~{Y1} (out), 19 ~{Y0} (out), 20 VCC (power)
part B pins: 1 NC, 6 NC, 11 NC, 16 NC

## JM38510/33701BEA
designator U?
3-Line To 8-Line Decoders/Demultiplexers, J0016A, TUBE; Generic Part Number: SN54F138; Manufacturer: Texas Instruments; PartNumber: JM38510/33701BEA; VCC(Min)(V): 4.5; VCC(Max)(V): 5.5; Rating: Military; Technology Family: F; Schmitt Trigger: No; DatasheetVersion: SDFS051B; PackageReference: J0016A; Operating Temperature Range(C): -55 to 125; ComponentLink1Description: Manufacturer URL; ComponentLink1URL: http://www.ti.com/; ComponentLink2Description: Datasheet; ComponentLink2URL: http://www.ti.com/lit/ds/symlink/sn54f138.pdf; ComponentLink3Description: Package Specification; ComponentLink3URL: http://www.ti.com/lit/ml/mcer002d/mcer002d.pdf
footprint J0016A (DIP, 16-Leads, Body 21.35x7.2mm, Pitch 2.54mm)
pins: 1 A (in), 2 B (in), 3 C (in), 4 ~{G}2A (in), 5 ~{G}2B (in), 6 G1 (in), 7 ~{Y7} (out), 8 GND (power), 9 ~{Y6} (out), 10 ~{Y5} (out), 11 ~{Y4} (out), 12 ~{Y3} (out), 13 ~{Y2} (out), 14 ~{Y1} (out), 15 ~{Y0} (out), 16 VCC (power)

## JM38510/33701BFA
designator U?
3-Line To 8-Line Decoders/Demultiplexers, W0016A, TUBE; Generic Part Number: SN54F138; Manufacturer: Texas Instruments; PartNumber: JM38510/33701BFA; VCC(Min)(V): 4.5; VCC(Max)(V): 5.5; Rating: Military; Technology Family: F; Schmitt Trigger: No; DatasheetVersion: SDFS051B; PackageReference: W0016A; Operating Temperature Range(C): -55 to 125; ComponentLink1Description: Manufacturer URL; ComponentLink1URL: http://www.ti.com/; ComponentLink2Description: Datasheet; ComponentLink2URL: http://www.ti.com/lit/ds/symlink/sn54f138.pdf; ComponentLink3Description: Package Specification; ComponentLink3URL: http://www.ti.com/lit/ml/mcfp004c/mcfp004c.pdf
footprint W0016A_N (CFP, 16-Leads, Body 10.92x7.24mm, Pitch 1.27mm, IPC Medium Density)
footprint W0016A_M (CFP, 16-Leads, Body 10.92x7.24mm, Pitch 1.27mm, IPC Low Density)
footprint W0016A_L (CFP, 16-Leads, Body 10.92x7.24mm, Pitch 1.27mm, IPC High Density)
pins: 1 A (in), 2 B (in), 3 C (in), 4 ~{G}2A (in), 5 ~{G}2B (in), 6 G1 (in), 7 ~{Y7} (out), 8 GND (power), 9 ~{Y6} (out), 10 ~{Y5} (out), 11 ~{Y4} (out), 12 ~{Y3} (out), 13 ~{Y2} (out), 14 ~{Y1} (out), 15 ~{Y0} (out), 16 VCC (power)

## JM38510/33902B2A
designator U?
Dual 1-Of-4 Data Selectors/Multiplexers, FK0020A, TUBE; Generic Part Number: SN54F153; Manufacturer: Texas Instruments; PartNumber: JM38510/33902B2A; VCC(Min)(V): 4.5; VCC(Max)(V): 5.5; Rating: Military; Technology Family: F; Schmitt Trigger: No; DatasheetVersion: SDFS052A; PackageReference: FK0020A; Operating Temperature Range(C): -55 to 125; Code_JEDEC: MS-004; ComponentLink1Description: Manufacturer URL; ComponentLink1URL: http://www.ti.com/; ComponentLink2Description: Datasheet; ComponentLink2URL: http://www.ti.com/lit/ds/symlink/sn54f153.pdf; ComponentLink3Description: Package Specification; ComponentLink3URL: http://www.ti.com/lit/ml/mlcc006d/mlcc006d.pdf
footprint FK0020A_N (LCC, 20-Leads, Body 8.9x8.9mm, Pitch 1.27mm, IPC Medium Density)
footprint FK0020A_M (LCC, 20-Leads, Body 8.9x8.9mm, Pitch 1.27mm, IPC Low Density)
footprint FK0020A_L (LCC, 20-Leads, Body 8.9x8.9mm, Pitch 1.27mm, IPC High Density)
part A pins: 2 1~{G} (in), 3 B (in), 4 1C3 (in), 5 1C2 (in), 7 1C1 (in), 8 1C0 (in), 9 1Y (out), 10 GND (power), 12 2Y (out), 13 2C0 (in), 14 2C1 (in), 15 2C2 (in), 17 2C3 (in), 18 A (in), 19 2~{G} (in), 20 VCC (power)
part B pins: 1 NC, 6 NC, 11 NC, 16 NC

## JM38510/33902BEA
designator U?
Dual 1-Of-4 Data Selectors/Multiplexers, J0016A, TUBE; Generic Part Number: SN54F153; Manufacturer: Texas Instruments; PartNumber: JM38510/33902BEA; VCC(Min)(V): 4.5; VCC(Max)(V): 5.5; Rating: Military; Technology Family: F; Schmitt Trigger: No; DatasheetVersion: SDFS052A; PackageReference: J0016A; Operating Temperature Range(C): -55 to 125; ComponentLink1Description: Manufacturer URL; ComponentLink1URL: http://www.ti.com/; ComponentLink2Description: Datasheet; ComponentLink2URL: http://www.ti.com/lit/ds/symlink/sn54f153.pdf; ComponentLink3Description: Package Specification; ComponentLink3URL: http://www.ti.com/lit/ml/mcer002d/mcer002d.pdf
footprint J0016A (DIP, 16-Leads, Body 21.35x7.2mm, Pitch 2.54mm)
pins: 1 1~{G} (in), 2 B (in), 3 1C3 (in), 4 1C2 (in), 5 1C1 (in), 6 1C0 (in), 7 1Y (out), 8 GND (power), 9 2Y (out), 10 2C0 (in), 11 2C1 (in), 12 2C2 (in), 13 2C3 (in), 14 A (in), 15 2~{G} (in), 16 VCC (power)

## JM38510/33902BFA
designator U?
Dual 1-Of-4 Data Selectors/Multiplexers, W0016A, TUBE; Generic Part Number: SN54F153; Manufacturer: Texas Instruments; PartNumber: JM38510/33902BFA; VCC(Min)(V): 4.5; VCC(Max)(V): 5.5; Rating: Military; Technology Family: F; Schmitt Trigger: No; DatasheetVersion: SDFS052A; PackageReference: W0016A; Operating Temperature Range(C): -55 to 125; ComponentLink1Description: Manufacturer URL; ComponentLink1URL: http://www.ti.com/; ComponentLink2Description: Datasheet; ComponentLink2URL: http://www.ti.com/lit/ds/symlink/sn54f153.pdf; ComponentLink3Description: Package Specification; ComponentLink3URL: http://www.ti.com/lit/ml/mcfp004c/mcfp004c.pdf
footprint W0016A_N (CFP, 16-Leads, Body 10.92x7.24mm, Pitch 1.27mm, IPC Medium Density)
footprint W0016A_M (CFP, 16-Leads, Body 10.92x7.24mm, Pitch 1.27mm, IPC Low Density)
footprint W0016A_L (CFP, 16-Leads, Body 10.92x7.24mm, Pitch 1.27mm, IPC High Density)
pins: 1 1~{G} (in), 2 B (in), 3 1C3 (in), 4 1C2 (in), 5 1C1 (in), 6 1C0 (in), 7 1Y (out), 8 GND (power), 9 2Y (out), 10 2C0 (in), 11 2C1 (in), 12 2C2 (in), 13 2C3 (in), 14 A (in), 15 2~{G} (in), 16 VCC (power)

## JM38510/34201B2A
designator U?
4-Bit Binary Full Adders With Fast Carry, FK0020A, TUBE; Generic Part Number: SN54F283; Manufacturer: Texas Instruments; PartNumber: JM38510/34201B2A; VCC(Min)(V): 4.5; VCC(Max)(V): 5.5; Inputs: 9; Function: Arithmetic; ICC @ Nom Voltage(Max)(mA): 55; Bits(#): 4; F @ Nom Voltage(Max)(Mhz): 70; Rating: Military; Technology Family: F; Output Drive (IOL/IOH)(Max)(mA): 20/-1; tpd @ Nom Voltage(Max)(ns): 10.5; DatasheetVersion: SDFS069A; PackageReference: FK0020A; Operating Temperature Range(C): -55 to 125; Type: Binary; Code_JEDEC: MS-004; ComponentLink1Description: Manufacturer URL; ComponentLink1URL: http://www.ti.com/; ComponentLink2Description: Datasheet; ComponentLink2URL: http://www.ti.com/lit/ds/symlink/sn54f283.pdf; ComponentLink3Description: Package Specification; ComponentLink3URL: http://www.ti.com/lit/ml/mlcc006d/mlcc006d.pdf
footprint FK0020A_N (LCC, 20-Leads, Body 8.9x8.9mm, Pitch 1.27mm, IPC Medium Density)
footprint FK0020A_M (LCC, 20-Leads, Body 8.9x8.9mm, Pitch 1.27mm, IPC Low Density)
footprint FK0020A_L (LCC, 20-Leads, Body 8.9x8.9mm, Pitch 1.27mm, IPC High Density)
pins: 1 NC, 2 Σ2 (out), 3 B2 (in), 4 A2 (in), 5 Σ1 (out), 6 NC, 7 A1 (in), 8 B1 (in), 9 C0 (in), 10 GND (power), 11 NC, 12 C4 (out), 13 Σ4 (out), 14 B4 (in), 15 A4 (in), 16 NC, 17 Σ3 (out), 18 A3 (in), 19 B3 (in), 20 VCC (power)

## JM38510/34201BEA
designator U?
4-Bit Binary Full Adders With Fast Carry, J0016A, TUBE; Generic Part Number: SN54F283; Manufacturer: Texas Instruments; PartNumber: JM38510/34201BEA; VCC(Min)(V): 4.5; VCC(Max)(V): 5.5; Inputs: 9; Function: Arithmetic; ICC @ Nom Voltage(Max)(mA): 55; Bits(#): 4; F @ Nom Voltage(Max)(Mhz): 70; Rating: Military; Technology Family: F; Output Drive (IOL/IOH)(Max)(mA): 20/-1; tpd @ Nom Voltage(Max)(ns): 10.5; DatasheetVersion: SDFS069A; PackageReference: J0016A; Operating Temperature Range(C): -55 to 125; Type: Binary; ComponentLink1Description: Manufacturer URL; ComponentLink1URL: http://www.ti.com/; ComponentLink2Description: Datasheet; ComponentLink2URL: http://www.ti.com/lit/ds/symlink/sn54f283.pdf; ComponentLink3Description: Package Specification; ComponentLink3URL: http://www.ti.com/lit/ml/mcer002d/mcer002d.pdf
footprint J0016A (DIP, 16-Leads, Body 21.35x7.2mm, Pitch 2.54mm)
pins: 1 Σ2 (out), 2 B2 (in), 3 A2 (in), 4 Σ1 (out), 5 A1 (in), 6 B1 (in), 7 C0 (in), 8 GND (power), 9 C4 (out), 10 Σ4 (out), 11 B4 (in), 12 A4 (in), 13 Σ3 (out), 14 A3 (in), 15 B3 (in), 16 VCC (power)

## JM38510/34201BFA
designator U?
4-Bit Binary Full Adders With Fast Carry, W0016A, TUBE; Generic Part Number: SN54F283; Manufacturer: Texas Instruments; PartNumber: JM38510/34201BFA; VCC(Min)(V): 4.5; VCC(Max)(V): 5.5; Inputs: 9; Function: Arithmetic; ICC @ Nom Voltage(Max)(mA): 55; Bits(#): 4; F @ Nom Voltage(Max)(Mhz): 70; Rating: Military; Technology Family: F; Output Drive (IOL/IOH)(Max)(mA): 20/-1; tpd @ Nom Voltage(Max)(ns): 10.5; DatasheetVersion: SDFS069A; PackageReference: W0016A; Operating Temperature Range(C): -55 to 125; Type: Binary; ComponentLink1Description: Manufacturer URL; ComponentLink1URL: http://www.ti.com/; ComponentLink2Description: Datasheet; ComponentLink2URL: http://www.ti.com/lit/ds/symlink/sn54f283.pdf; ComponentLink3Description: Package Specification; ComponentLink3URL: http://www.ti.com/lit/ml/mcfp004c/mcfp004c.pdf
footprint W0016A_N (CFP, 16-Leads, Body 10.92x7.24mm, Pitch 1.27mm, IPC Medium Density)
footprint W0016A_M (CFP, 16-Leads, Body 10.92x7.24mm, Pitch 1.27mm, IPC Low Density)
footprint W0016A_L (CFP, 16-Leads, Body 10.92x7.24mm, Pitch 1.27mm, IPC High Density)
pins: 1 Σ2 (out), 2 B2 (in), 3 A2 (in), 4 Σ1 (out), 5 A1 (in), 6 B1 (in), 7 C0 (in), 8 GND (power), 9 C4 (out), 10 Σ4 (out), 11 B4 (in), 12 A4 (in), 13 Σ3 (out), 14 A3 (in), 15 B3 (in), 16 VCC (power)

## JM38510/34701B2A
designator U?
8-Bit Identity/Magnitude Comparators (P=Q) with Enable, FK0020A, TUBE; Generic Part Number: SN54F521; Manufacturer: Texas Instruments; PartNumber: JM38510/34701B2A; VCC(Min)(V): 4.5; VCC(Max)(V): 5.5; Output Type: TTL; ICC @ Nom Voltage(Max)(mA): 32; Bits(#): 8; Rating: Military; Technology Family: F; Output Drive (IOL/IOH)(Max)(mA): 20/-1; tpd @ Nom Voltage(Max)(ns): 11; DatasheetVersion: SDFS091; PackageReference: FK0020A; Input Type: TTL; Operating Temperature Range(C): -55 to 125; Code_JEDEC: MS-004; ComponentLink1Description: Manufacturer URL; ComponentLink1URL: http://www.ti.com/; ComponentLink2Description: Datasheet; ComponentLink2URL: http://www.ti.com/lit/ds/symlink/sn54f521.pdf; ComponentLink3Description: Package Specification; ComponentLink3URL: http://www.ti.com/lit/ml/mlcc006d/mlcc006d.pdf
footprint FK0020A_N (LCC, 20-Leads, Body 8.9x8.9mm, Pitch 1.27mm, IPC Medium Density)
footprint FK0020A_M (LCC, 20-Leads, Body 8.9x8.9mm, Pitch 1.27mm, IPC Low Density)
footprint FK0020A_L (LCC, 20-Leads, Body 8.9x8.9mm, Pitch 1.27mm, IPC High Density)
pins: 1 ~{OE} (in), 2 P0 (in), 3 Q0 (in), 4 P1 (in), 5 Q1 (in), 6 P2 (in), 7 Q2 (in), 8 P3 (in), 9 Q3 (in), 10 GND (power), 11 P4 (in), 12 Q4 (in), 13 P5 (in), 14 Q5 (in), 15 P6 (in), 16 Q6 (in), 17 P7 (in), 18 Q7 (in), 19 ~{P=Q} (out), 20 VCC (power)